# Altium footprint library SnapEDApcb.PcbLib: 4 footprints
Each footprint in its own frame and in the unit in brackets; x right, y up, seen from the top. Pads: shape width x height; smd on the part's side, far side on the other; paste and mask are expansions set on the pad; w line width, h text height; cw(c..) or ccw(c..) is an arc to the next point about the centre after c.
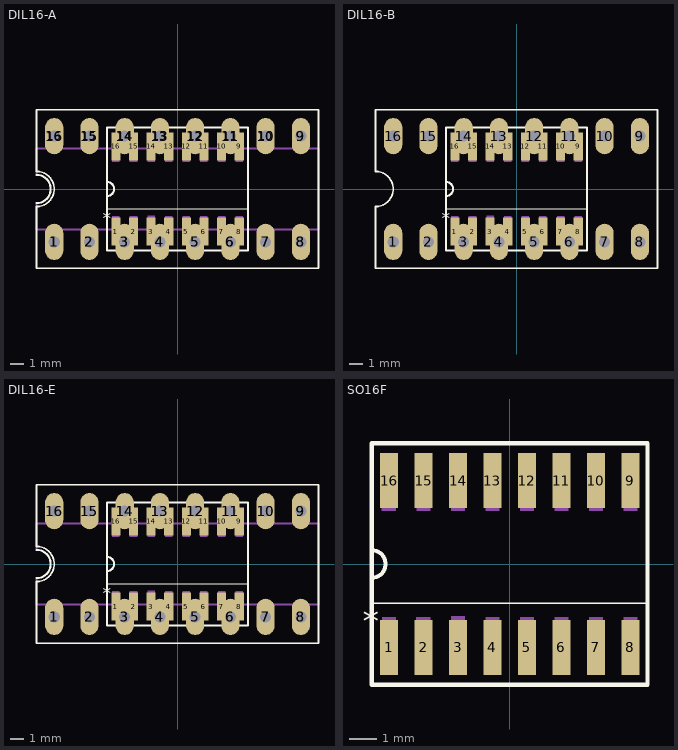
[diagram p0: the footprints below, top view; thin cyan lines are the x and y axes]

## DIL16-A [mil]
pads (64):
  round 51.5 hole 31.5: 1(-350,-150) 2(-250,-150) 3(-150,-150) 4(-50,-150) 5(50,-150) 6(150,-150) 7(250,-150) 8(350,-150) 9(350,150) 10(250,150) 11(150,150) 12(50,150) 13(-50,150) 14(-150,150) 15(-250,150) 16(-350,150)
  oval 51.5x102.99 hole 31.5: 1(-350,-150) 1(-350,-150) 2(-250,-150) 2(-250,-150) 3(-150,-150) 3(-150,-150) 4(-50,-150) 4(-50,-150) 5(50,-150) 5(50,-150) 6(150,-150) 6(150,-150) 7(250,-150) 7(250,-150) 8(350,-150) 8(350,-150) 9(350,150) 9(350,150) 10(250,150) 10(250,150) 11(150,150) 11(150,150) 12(50,150) 12(50,150) 13(-50,150) 13(-50,150) 14(-150,150) 14(-150,150) 15(-250,150) 15(-250,150) 16(-350,150) 16(-350,150)
  rect 26x80 smd: 1(-175,-121) 2(-125,-121) 3(-75,-121) 4(-25,-121) 5(25,-121) 6(75,-121) 7(125,-121) 8(175,-121) 9(175,121) 10(125,121) 11(75,121) 12(25,121) 13(-25,121) 14(-75,121) 15(-125,121) 16(-175,121)
Top Overlay:
  lines w2: -200,-56.75 200,-56.75
  lines w5: -400,-50 ccw(c-400,0) -400,50 ; -400,-50 ccw(c-400,0) -400,50 ; -400,-50 -400,-225 400,-225 400,225 -400,225 -400,50
  lines w6: -400,-40 ccw(c-400,0) -400,40 ; -400,-40 ccw(c-400,0) -400,40 ; -400,-40 ccw(c-400,0) -400,40 ; -400,-40 ccw(c-400,0) -400,40 ; -400,-40 ccw(c-400,0) -400,40 ; -400,-40 ccw(c-400,0) -400,40 ; -200,-20 ccw(c-200,0) -200,20 ; -200,-20 -200,-175 200,-175 200,175 -200,175 -200,20 ; -200,-20 -200,20
  text "*" at -212.76,-100.12 h35.04
Mechanical 13:
  region: 185,77.11 165.23,77.11 165.23,122 185,122
  region: 135,77.15 115.23,77.15 115.23,122 135,122
  region: 85,77.1 65.09,77.1 65.09,122 85,122
  region: 35,77.1 15.02,77.1 15.02,122 35,122
  region: 185,-122.08 165.1,-122.08 165.1,-77 185,-77
  region: 135,-122.08 115.08,-122.08 115.08,-77 135,-77
  region: 85,-122.22 65.12,-122.22 65.12,-77 85,-77
  region: 35,-122.18 15.02,-122.18 15.02,-77 35,-77
  region: -165,77.15 -185.37,77.15 -185.37,122 -165,122
  region: -115,77.01 -135.02,77.01 -135.02,122 -115,122
  region: -65,77.08 -85.08,77.08 -85.08,122 -65,122
  region: -15,-122.11 -35.03,-122.11 -35.03,-77 -15,-77
  region: -65,-121.09 -85.06,-121.09 -85.06,-76 -65,-76
  region: -115,-122.22 -135.25,-122.22 -135.25,-77 -115,-77
  region: -165,-122.09 -185.13,-122.09 -185.13,-77 -165,-77
  region: -15,77.15 -35.07,77.15 -35.07,122 -15,122
  lines w6: -400,-115 -400,-40 ; -400,-115 400,-115 ; -400,-115 -400,-40 ; -400,-115 400,-115 ; -400,-115 -400,-40 ; -400,-115 400,-115 ; -400,-115 -400,-40 ; -400,-115 400,-115 ; -400,-115 -400,-40 ; -400,-115 400,-115 ; -400,40 -400,115 ; -400,40 -400,115 ; -400,40 -400,115 ; -400,40 -400,115 ; -400,40 -400,115 ; -400,115 400,115 ; -400,115 400,115 ; -400,115 400,115 ; -400,115 400,115 ; -400,115 400,115 ; 400,-115 400,115 ; 400,-115 400,115 ; 400,-115 400,115 ; 400,-115 400,115 ; 400,-115 400,115

## DIL16-B [mil]
pads (32):
  oval 51.5x102.99 hole 31.5: 1(-350,-150) 2(-250,-150) 3(-150,-150) 4(-50,-150) 5(50,-150) 6(150,-150) 7(250,-150) 8(350,-150) 9(350,150) 10(250,150) 11(150,150) 12(50,150) 13(-50,150) 14(-150,150) 15(-250,150) 16(-350,150)
  rect 26x80 smd: 1(-175,-121) 2(-125,-121) 3(-75,-121) 4(-25,-121) 5(25,-121) 6(75,-121) 7(125,-121) 8(175,-121) 9(175,121) 10(125,121) 11(75,121) 12(25,121) 13(-25,121) 14(-75,121) 15(-125,121) 16(-175,121)
Top Overlay:
  lines w2: -200,-56.75 200,-56.75
  lines w5: -400,-50 ccw(c-400,0) -400,50 ; -400,-50 ccw(c-400,0) -400,50 ; -400,-50 -400,-225 400,-225 400,225 -400,225 -400,50
  lines w6: -200,-20 ccw(c-200,0) -200,20 ; -200,-20 -200,20 ; -200,-20 -200,-175 200,-175 200,175 -200,175 -200,20
  text "*" at -212.76,-100.12 h35.04
Mechanical 13:
  region: -15,77.15 -35.07,77.15 -35.07,122 -15,122
  region: -165,-122.09 -185.13,-122.09 -185.13,-77 -165,-77
  region: -115,-122.22 -135.25,-122.22 -135.25,-77 -115,-77
  region: -65,-121.09 -85.06,-121.09 -85.06,-76 -65,-76
  region: -15,-122.11 -35.03,-122.11 -35.03,-77 -15,-77
  region: -65,77.08 -85.08,77.08 -85.08,122 -65,122
  region: -115,77.01 -135.02,77.01 -135.02,122 -115,122
  region: -165,77.15 -185.37,77.15 -185.37,122 -165,122
  region: 35,-122.18 15.02,-122.18 15.02,-77 35,-77
  region: 85,-122.22 65.12,-122.22 65.12,-77 85,-77
  region: 135,-122.08 115.08,-122.08 115.08,-77 135,-77
  region: 185,-122.08 165.1,-122.08 165.1,-77 185,-77
  region: 35,77.1 15.02,77.1 15.02,122 35,122
  region: 85,77.1 65.09,77.1 65.09,122 85,122
  region: 135,77.15 115.23,77.15 115.23,122 135,122
  region: 185,77.11 165.23,77.11 165.23,122 185,122

## DIL16-E [mil]
pads (48):
  oval 51.5x102.99 hole 31.5: 1(-350,-150) 1(-350,-150) 2(-250,-150) 2(-250,-150) 3(-150,-150) 3(-150,-150) 4(-50,-150) 4(-50,-150) 5(50,-150) 5(50,-150) 6(150,-150) 6(150,-150) 7(250,-150) 7(250,-150) 8(350,-150) 8(350,-150) 9(350,150) 9(350,150) 10(250,150) 10(250,150) 11(150,150) 11(150,150) 12(50,150) 12(50,150) 13(-50,150) 13(-50,150) 14(-150,150) 14(-150,150) 15(-250,150) 15(-250,150) 16(-350,150) 16(-350,150)
  rect 26x80 smd: 1(-175,-121) 2(-125,-121) 3(-75,-121) 4(-25,-121) 5(25,-121) 6(75,-121) 7(125,-121) 8(175,-121) 9(175,121) 10(125,121) 11(75,121) 12(25,121) 13(-25,121) 14(-75,121) 15(-125,121) 16(-175,121)
Top Overlay:
  lines w2: -200,-56.75 200,-56.75
  lines w5: -400,-50 ccw(c-400,0) -400,50 ; -400,-50 ccw(c-400,0) -400,50 ; -400,-50 -400,-225 400,-225 400,225 -400,225 -400,50
  lines w6: -200,-20 ccw(c-200,0) -200,20 ; -200,-20 -200,20 ; -200,-20 -200,-175 200,-175 200,175 -200,175 -200,20 ; -400,-40 ccw(c-400,0) -400,40 cw(c-400,0) -400,-40
  text "*" at -212.76,-100.12 h35.04
Mechanical 13:
  region: -15,77.15 -35.07,77.15 -35.07,122 -15,122
  region: -165,-122.09 -185.13,-122.09 -185.13,-77 -165,-77
  region: -115,-122.22 -135.25,-122.22 -135.25,-77 -115,-77
  region: -65,-121.09 -85.06,-121.09 -85.06,-76 -65,-76
  region: -15,-122.11 -35.03,-122.11 -35.03,-77 -15,-77
  region: -65,77.08 -85.08,77.08 -85.08,122 -65,122
  region: -115,77.01 -135.02,77.01 -135.02,122 -115,122
  region: -165,77.15 -185.37,77.15 -185.37,122 -165,122
  region: 35,-122.18 15.02,-122.18 15.02,-77 35,-77
  region: 85,-122.22 65.12,-122.22 65.12,-77 85,-77
  region: 135,-122.08 115.08,-122.08 115.08,-77 135,-77
  region: 185,-122.08 165.1,-122.08 165.1,-77 185,-77
  region: 35,77.1 15.02,77.1 15.02,122 35,122
  region: 85,77.1 65.09,77.1 65.09,122 85,122
  region: 135,77.15 115.23,77.15 115.23,122 135,122
  region: 185,77.11 165.23,77.11 165.23,122 185,122
  lines w6: -400,-40 -400,-115 400,-115 400,115 -400,115 -400,40

## SO16F [mil]
pads (16):
  rect 26x80 smd: 1(-175,-121) 2(-125,-121) 3(-75,-121) 4(-25,-121) 5(25,-121) 6(75,-121) 7(125,-121) 8(175,-121) 9(175,121) 10(125,121) 11(75,121) 12(25,121) 13(-25,121) 14(-75,121) 15(-125,121) 16(-175,121)
Top Overlay:
  lines w2: -200,-56.75 200,-56.75
  lines w6: -200,-20 ccw(c-200,0) -200,20 ; -200,-20 -200,20 ; -200,-20 -200,-175 200,-175 200,175 -200,175 -200,20
  text "*" at -212.76,-100.12 h35.04
Mechanical 13:
  region: -15,77.15 -35.07,77.15 -35.07,122 -15,122
  region: -165,-122.09 -185.13,-122.09 -185.13,-77 -165,-77
  region: -115,-122.22 -135.25,-122.22 -135.25,-77 -115,-77
  region: -65,-121.09 -85.06,-121.09 -85.06,-76 -65,-76
  region: -15,-122.11 -35.03,-122.11 -35.03,-77 -15,-77
  region: -65,77.08 -85.08,77.08 -85.08,122 -65,122
  region: -115,77.01 -135.02,77.01 -135.02,122 -115,122
  region: -165,77.15 -185.37,77.15 -185.37,122 -165,122
  region: 35,-122.18 15.02,-122.18 15.02,-77 35,-77
  region: 85,-122.22 65.12,-122.22 65.12,-77 85,-77
  region: 135,-122.08 115.08,-122.08 115.08,-77 135,-77
  region: 185,-122.08 165.1,-122.08 165.1,-77 185,-77
  region: 35,77.1 15.02,77.1 15.02,122 35,122
  region: 85,77.1 65.09,77.1 65.09,122 85,122
  region: 135,77.15 115.23,77.15 115.23,122 135,122
  region: 185,77.11 165.23,77.11 165.23,122 185,122